# Altium footprint library SMC-J.PcbLib: 1 footprints
Each footprint in its own frame and in the unit in brackets; x right, y up, seen from the top. Pads: shape width x height; smd on the part's side, far side on the other; paste and mask are expansions set on the pad; w line width, h text height; cw(c..) or ccw(c..) is an arc to the next point about the centre after c.
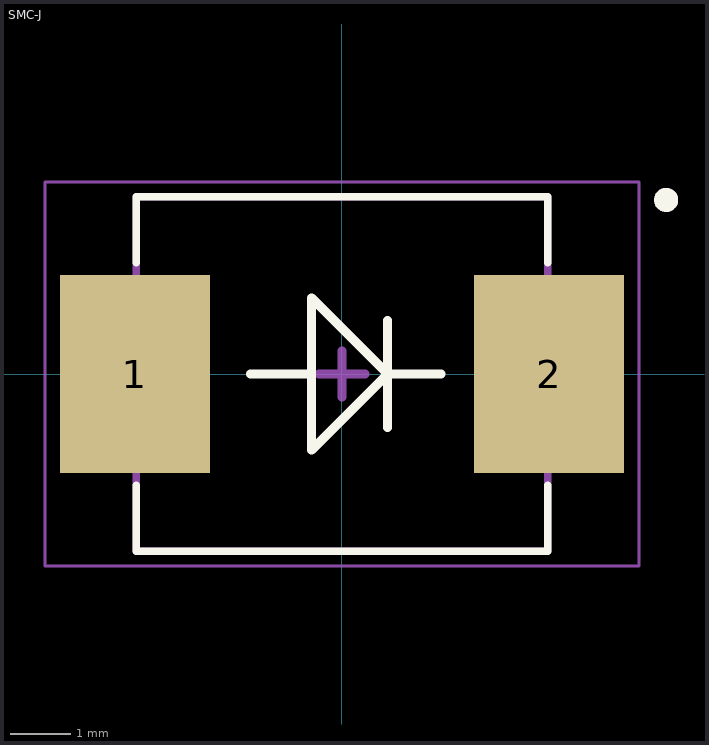
[diagram p0: the footprint, top view; thin cyan lines are the x and y axes]

## SMC-J [mm] "SMC Surface Mount Diode"
height 2.5
pads (2):
  rect 2.5x3.3 smd: 1(-3.45,0) 2(3.45,0)
Top Overlay:
  circle w0.2: c5.4,2.9 r0.1
  lines w0.127: -3.425,-1.85 -3.425,-2.95 3.425,-2.95 3.425,-1.85 ; -3.425,1.85 -3.425,2.95 3.425,2.95 3.425,1.85
  lines w0.15: -1.524,0 -0.508,0 ; 0.762,-0.889 0.762,0.889 ; 1.651,0 0.762,0 ; 0.762,0 -0.508,1.27 -0.508,-1.27 0.762,0
Mechanical 13:
  circle w0.2: c5.4,2.9 r0.1
  circle w0.2: c5.4,2.9 r0.1
  lines w0.127: -3.425,-2.95 3.425,-2.95 ; -3.425,-2.95 -3.425,2.95 ; -3.425,-2.95 3.425,-2.95 ; -3.425,-2.95 -3.425,2.95 ; -3.425,2.95 3.425,2.95 ; -3.425,2.95 3.425,2.95 ; 3.425,-2.95 3.425,2.95 ; 3.425,-2.95 3.425,2.95
Mechanical 15:
  lines w0.05: -4.95,-3.2 4.95,-3.2 4.95,3.2 -4.95,3.2 -4.95,-3.2
  lines w0.15: -0.381,0 0.381,0 ; 0,-0.381 0,0.381
3D body "SMC_DIODE.step": height 2.67, standoff 0.03, extent -4.064,-3.15 4.064,3.15